# EAGLE library part DCDC (library OKL)
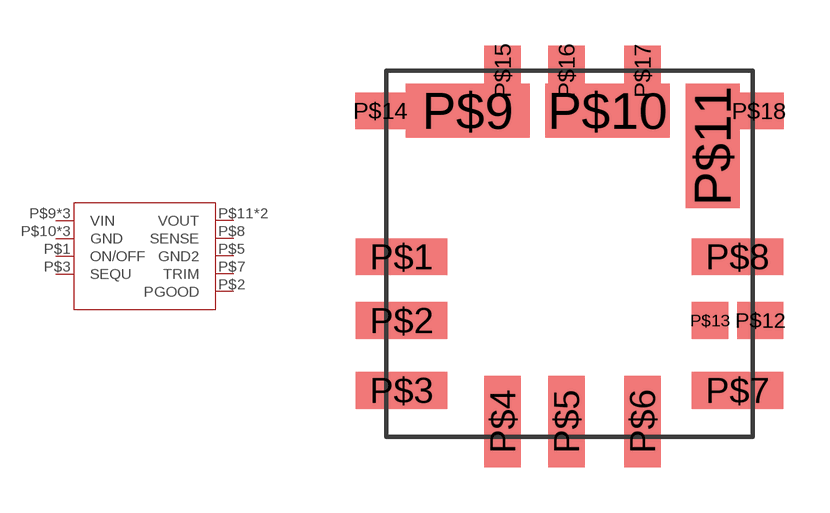
[diagram p0: symbol with the pads of DC-DC; footprint DC-DC]

Designator prefix -

## DCDC  [DC-DC]
P$1  ON/OFF
P$2  PGOOD
P$3  SEQU
P$5  GND2
P$7  TRIM
P$8  SENSE
P$9  VIN
P$10  GND
P$11  VOUT
P$14  VIN
P$15  VIN
P$16  GND
P$17  GND
P$18  VOUT

## Footprint DC-DC (pad centres in mm)
smd 3 x 1.2: P$1 -5.5,-0.1; P$2 -5.5,-2.19; P$3 -5.5,-4.48; P$7 5.5,-4.48; P$8 5.5,-0.1
smd 1.2 x 3: P$4 -2.19,-5.5; P$5 -0.1,-5.5; P$6 2.39,-5.5
smd 4.07 x 1.77: P$9 -3.335,4.685; P$10 1.245,4.685
smd 1.77 x 4.07: P$11 4.685,3.535
smd 1.5 x 1.2: P$12 6.25,-2.19
smd 1.2 x 1.2: P$13 4.6,-2.19
smd 1.63 x 1.2: P$14 -6.2,4.685; P$18 6.2,4.68
smd 1.2 x 1.63: P$15 -2.19,6; P$16 -0.1,6; P$17 2.39,6